# Altium footprint library MarvinPcbLib2.PcbLib: 28 footprints (part 2 of 2)
Each footprint in its own frame and in the unit in brackets; x right, y up, seen from the top. Pads: shape width x height; smd on the part's side, far side on the other; paste and mask are expansions set on the pad; w line width, h text height; cw(c..) or ccw(c..) is an arc to the next point about the centre after c.
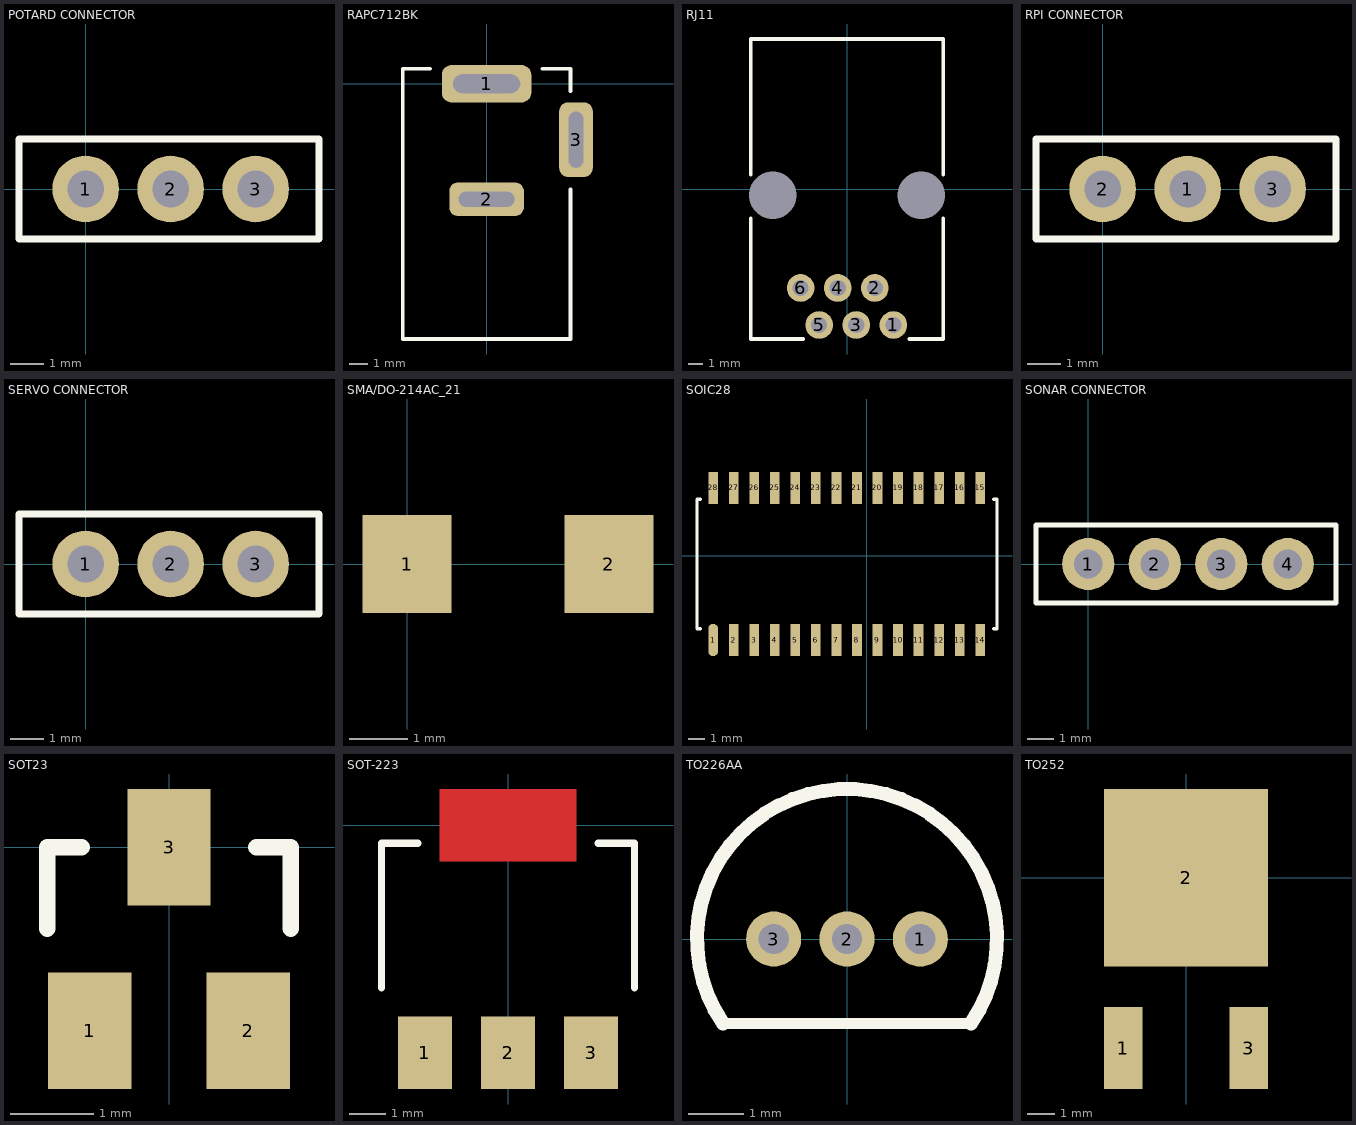
[diagram p1: the footprints below, top view; thin cyan lines are the x and y axes]

## POTARD CONNECTOR [mm]
pads (3):
  round 2 hole 1.1 mask+0.2: 1(0,0) 2(2.55,0) 3(5.1,0)
Top Overlay:
  lines w0.2: -2,-1.5 7,-1.5 7,1.5 -2,1.5 -2,-1.5
3D body: height 9.5, standoff -3.2, extent -1.27,-1.27 6.35,1.27

## RAPC712BK [mm] "PRISE JACK RAPC712BK"
pads (3):
  rrect50% 4.8x2 hole 1 slot 3.6 at 0 deg mask+0.2: 1(0,0)
  rrect50% 4x1.8 hole 0.8 slot 3 at 0 deg mask+0.2: 2(0,-6.2)
  rrect50% 1.8x4 hole 0.8 slot 3 at 90 deg mask+0.2: 3(4.8,-3)
Top Overlay:
  lines w0.2: -3.025,0.8 -4.5,0.8 -4.5,-13.7 4.5,-13.7 4.5,-5.675 ; 3,0.8 4.5,0.8 4.5,-0.4

## RJ11 [mm]
pads (8):
  round 1.9 hole 1.1 mask+0.2: 1(3.175,-9.325) 2(1.905,-6.785) 3(0.635,-9.325) 4(-0.635,-6.785)
  round 1.9 hole 1.1 unplated mask+0.2: 5(-1.905,-9.325) 6(-3.175,-6.785)
  round 1.524 hole 3.25 unplated mask+0.2: ""(-5.08,-0.435) ""(5.08,-0.435)
Top Overlay:
  lines w0.254: -6.605,-2 -6.605,-10.285 -3,-10.285 ; -6.605,1 -6.605,10.285 6.605,10.285 6.605,1 ; 4.285,-10.285 6.605,-10.285 6.605,-2

## RPI CONNECTOR [mm]
pads (3):
  round 2 hole 1.1 mask+0.2: 1(2.55,0) 2(0,0) 3(5.1,0)
Top Overlay:
  lines w0.2: -2,-1.5 7,-1.5 7,1.5 -2,1.5 -2,-1.5
3D body: height 9.5, standoff -3.2, extent -1.27,-1.27 6.35,1.27

## SERVO CONNECTOR [mm]
pads (3):
  round 2 hole 1.1 mask+0.2: 1(0,0) 2(2.55,0) 3(5.1,0)
Top Overlay:
  lines w0.2: -2,-1.5 -2,1.5 7,1.5 7,-1.5 -2,-1.5
3D body: height 9.5, standoff -3.2, extent -1.27,-1.27 6.35,1.27

## SMA/DO-214AC_21 [mm]
pads (2):
  rect 1.52x1.68 smd mask+0.2: 1(0,0) 2(3.45,0)

## SOIC28 [mm] "PIC32MX270F256B"
pads (28):
  oval 0.6x2 smd mask+0.2: 1(-9.5,-5.2)
  rect 0.6x2 smd mask+0.2: 2(-8.23,-5.2) 3(-6.96,-5.2) 4(-5.69,-5.2) 5(-4.42,-5.2) 6(-3.15,-5.2) 7(-1.88,-5.2) 8(-0.61,-5.2) 9(0.66,-5.2) 10(1.93,-5.2) 11(3.2,-5.2) 12(4.47,-5.2) 13(5.74,-5.2) 14(7.01,-5.2) 15(7.01,4.2) 16(5.74,4.2) 17(4.47,4.2) 18(3.2,4.2) 19(1.93,4.2) 20(0.66,4.2) 21(-0.61,4.2) 22(-1.88,4.2) 23(-3.15,4.2) 24(-4.42,4.2) 25(-5.69,4.2) 26(-6.96,4.2) 27(-8.23,4.2) 28(-9.5,4.2)
Top Overlay:
  lines w0.1: -10.5,-4.5 -10.45,-4.5
  lines w0.2: -10.5,-4.5 -10.5,3.5 -10.3,3.5 ; -10.45,-4.5 -10.3,-4.5 ; 7.85,-4.5 8.05,-4.5 8.05,3.5 ; 7.85,3.5 8,3.5
3D body: height 2, standoff 0, extent -10.265,-5.581 7.815,4.582

## SONAR CONNECTOR [mm]
pads (4):
  round 2 hole 1.1 mask+0.2: 1(0,0) 2(2.55,0) 3(5.1,0) 4(7.65,0)
Top Overlay:
  lines w0.2: -2,-1.5 -2,1.5 9.5,1.5 9.5,-1.5 -2,-1.5
3D body: height 9.5, standoff -3.2, extent -1.27,-1.27 8.89,1.27

## SOT23 [mm] "MOSFET N 2N7002K"
pads (3):
  rect 1x1.4 smd mask+0.2: 1(-0.95,-2.2) 2(0.95,-2.2) 3(0,0)
Top Overlay:
  lines w0.2: -1.46,-0.975 -1.46,0 -1.05,0 ; 1.05,0 1.46,0 1.46,-0.975

## SOT-223 [mm] "LD1117S33TR"
pads (3):
  rect 1.5x2 smd mask+0.2: 1(-2.3,-6.3) 2(0,-6.3) 3(2.3,-6.3)
Top Layer:
  rectangle: -1.9,-1 1.9,1
Top Overlay:
  lines w0.2: -3.5,-4.5 -3.5,-0.5 -2.5,-0.5 ; 2.5,-0.5 3.5,-0.5 3.5,-4.5

## TO226AA [mm] "MOSFET P - ZVP2106A"
pads (3):
  round 1 hole 0.55 mask+0.2: 1(1.33,0) 2(0,0) 3(-1.33,0)
Top Overlay:
  lines w0.2: -2.25,-1.53 2.25,-1.53
  lines w0.254: -2.25,-1.53 cw(c0,0) 2.25,-1.53

## TO252 [mm] "MOSFET N FQD1N60CTM"
pads (3):
  rect 1.4x3 smd mask+0.2: 1(-2.3,-6.25) 3(2.3,-6.25)
  rect 6x6.5 smd mask+0.2: 2(0,0)